# Altium footprint library DIP-SW  0607.PCBlib: 56 footprints (part 1 of 4)
Each footprint in its own frame and in the unit in brackets; x right, y up, seen from the top. Pads: shape width x height; smd on the part's side, far side on the other; paste and mask are expansions set on the pad; w line width, h text height; cw(c..) or ccw(c..) is an arc to the next point about the centre after c.
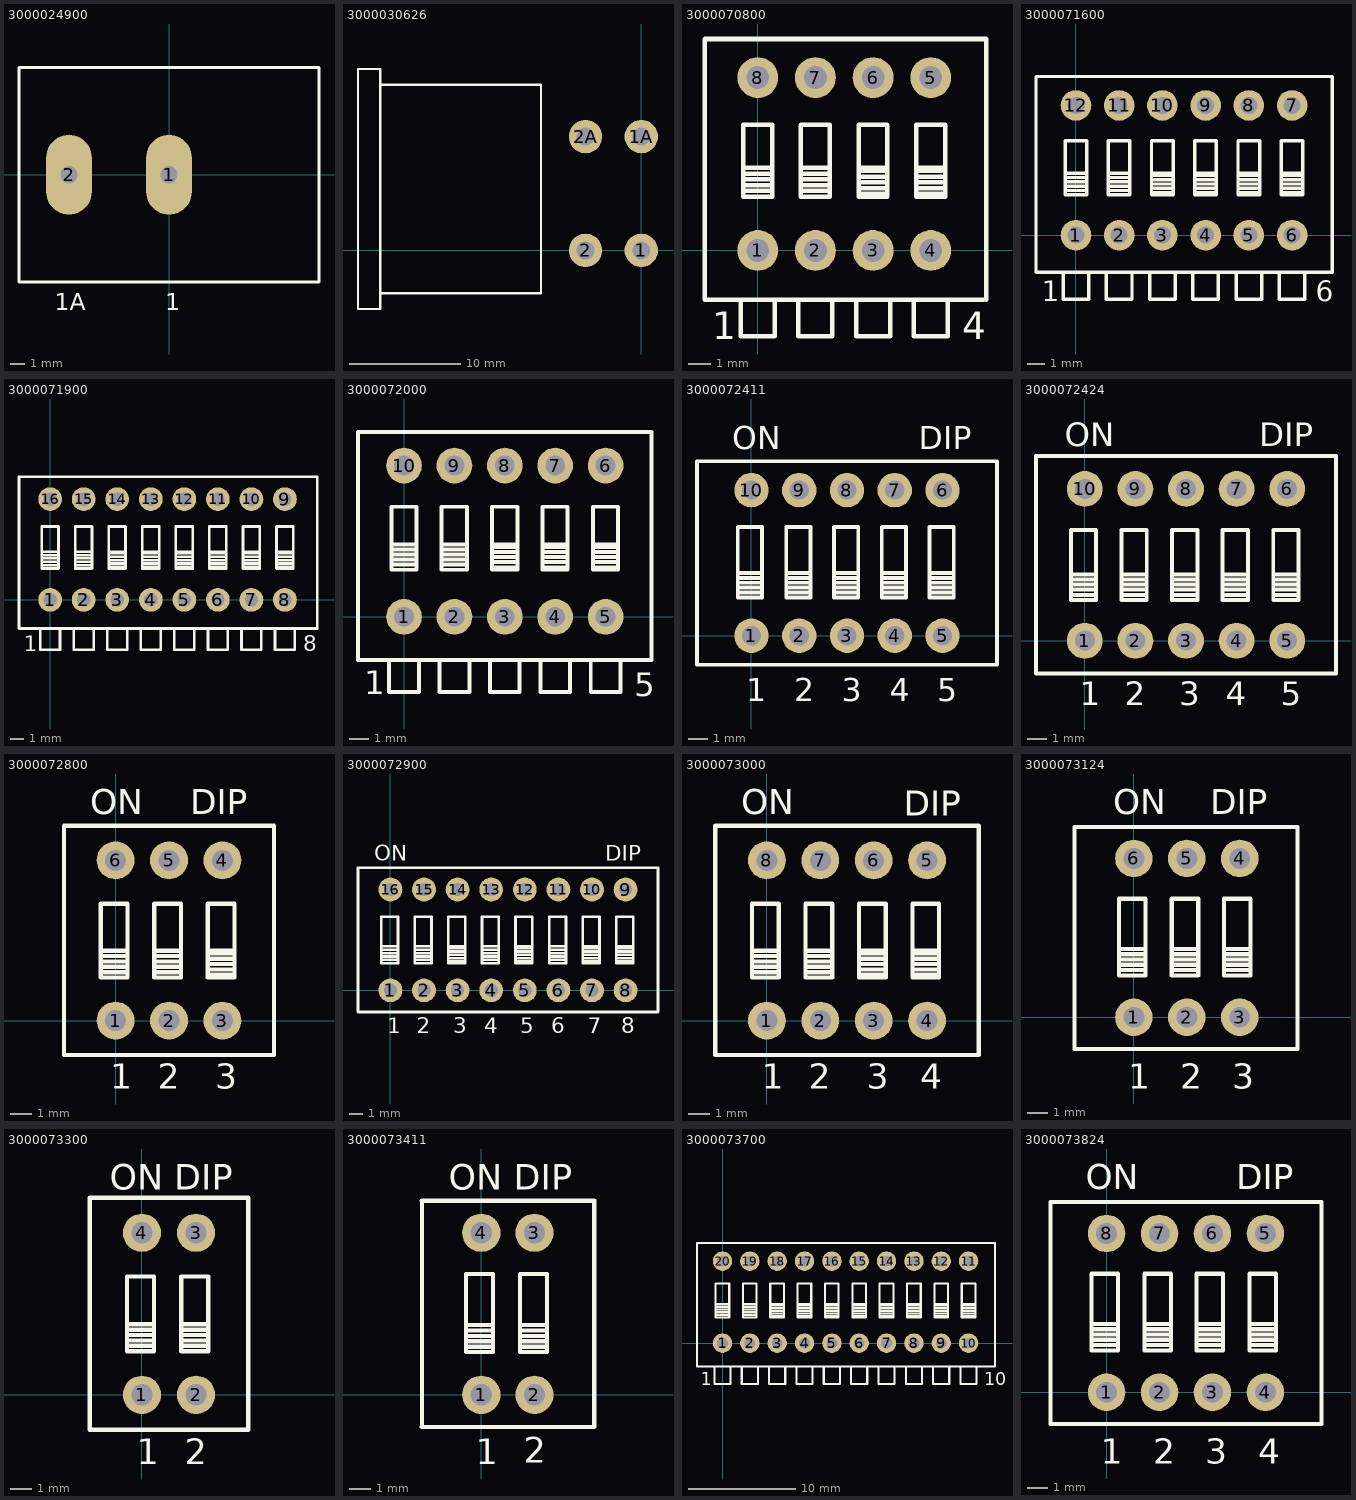
[diagram p0: the footprints below, top view; thin cyan lines are the x and y axes]

## 3000024900 [mm]
height 17
pads (2):
  oval 3.2x5.6 hole 1.2: 1(0,0) 2(-7,0)
Top Overlay:
  lines w0.2: -10.5,-7.5 10.5,-7.5 10.5,7.5 -10.5,7.5 -10.5,-7.5
  text "1A" at -8,-9.5 h1.2
  text "1" at -0.25,-9.5 h1.2
Top Solder:
  lines w1.5: -7,-1.2 -7,0 -7,1.2 ; 0,-1.2 0,0 0,1.2
Drill Drawing:
  lines w0.2: -7.6,-1.3 -7.6,1.3 ; -7.6,-1.2 ccw(c-7,-1.2) -6.4,-1.2 -6.4,1.2 ccw(c-7,1.2) -7.6,1.2 ; -0.6,-1.3 -0.6,1.3 ; -0.6,-1.2 ccw(c0,-1.2) 0.6,-1.2 0.6,1.2 ccw(c0,1.2) -0.6,1.2
  text "(1.2X3.6)*2" at -8.25,-5.25 h1.2

## 3000030626 [mm]
height 19.9
pads (4):
  round 3 hole 1.6: 1(0,0) 1A(0,10.2) 2(-5,0) 2A(-5,10.2)
Top Overlay:
  lines w0.2: -23.4,-3.85 -9,-3.85 -9,14.85 -23.4,14.85 ; -25.4,-5.25 -23.4,-5.25 -23.4,16.25 -25.4,16.25 -25.4,-5.25

## 3000070800 [mm]
height 10.3
pads (8):
  round 1.8 hole 1: 1(0,0) 2(2.54,0) 3(5.08,0) 4(7.62,0) 5(7.62,7.62) 6(5.08,7.62) 7(2.54,7.62) 8(0,7.62)
Top Overlay:
  lines w0.2: -0.75,-2.18 -0.75,-3.78 0.75,-3.78 0.75,-2.18 ; -0.64,3.64 0.63,3.64 ; -0.513,2.624 0.503,2.624 ; -0.513,2.878 0.503,2.878 ; -0.513,3.132 0.503,3.132 ; -0.513,3.386 0.503,3.386 ; 1.79,-2.18 1.79,-3.78 3.29,-3.78 3.29,-2.18 ; 1.9,3.64 3.17,3.64 ; 2.027,2.624 3.043,2.624 ; 2.027,2.878 3.043,2.878 ; 2.027,3.132 3.043,3.132 ; 2.027,3.386 3.043,3.386 ; 4.33,-2.18 4.33,-3.78 5.83,-3.78 5.83,-2.18 ; 4.44,3.64 5.71,3.64 ; 4.567,2.497 5.583,2.497 ; 4.567,2.751 5.583,2.751 ; 4.567,3.005 5.583,3.005 ; 4.567,3.259 5.583,3.259 ; 4.567,3.513 5.583,3.513 ; 6.87,-2.18 6.87,-3.78 8.37,-3.78 8.37,-2.18 ; 6.98,3.64 8.25,3.64 ; 7.107,2.497 8.123,2.497 ; 7.107,2.751 8.123,2.751 ; 7.107,3.005 8.123,3.005 ; 7.107,3.259 8.123,3.259 ; 7.107,3.513 8.123,3.513 ; 9.96,-2.18 -2.34,-2.18 -2.34,9.32 10.06,9.32 10.06,-2.18 ; -0.64,2.37 -0.64,5.545 0.63,5.545 0.63,2.37 -0.64,2.37 ; 1.9,2.37 1.9,5.545 3.17,5.545 3.17,2.37 1.9,2.37 ; 4.44,2.37 4.44,5.545 5.71,5.545 5.71,2.37 4.44,2.37 ; 6.98,2.37 6.98,5.545 8.25,5.545 8.25,2.37 6.98,2.37
  text "4" at 9,-3.9 h1.2
  text "1" at -2,-3.9 h1.2
Bottom Overlay:
  lines w0.5: 1.27,-0.8 1.27,0.8 ; 1.27,6.82 1.27,8.42 ; 3.81,-0.8 3.81,0.8 ; 3.81,6.82 3.81,8.42 ; 6.35,-0.8 6.35,0.8 ; 6.35,6.82 6.35,8.42

## 3000071600 [mm]
height 10.3
pads (12):
  round 1.8 hole 1: 1(0,0) 2(2.54,0) 3(5.08,0) 4(7.62,0) 5(10.16,0) 6(12.7,0) 7(12.7,7.62) 8(10.16,7.62) 9(7.62,7.62) 10(5.08,7.62) 11(2.54,7.62) 12(0,7.62)
Top Overlay:
  lines w0.2: -0.75,-2.18 -0.75,-3.78 0.75,-3.78 0.75,-2.18 ; -0.64,3.64 0.63,3.64 ; -0.513,2.624 0.503,2.624 ; -0.513,2.878 0.503,2.878 ; -0.513,3.132 0.503,3.132 ; -0.513,3.386 0.503,3.386 ; 1.79,-2.18 1.79,-3.78 3.29,-3.78 3.29,-2.18 ; 1.9,3.64 3.17,3.64 ; 2.027,2.624 3.043,2.624 ; 2.027,2.878 3.043,2.878 ; 2.027,3.132 3.043,3.132 ; 2.027,3.386 3.043,3.386 ; 4.33,-2.18 4.33,-3.78 5.83,-3.78 5.83,-2.18 ; 4.44,3.64 5.71,3.64 ; 4.567,2.497 5.583,2.497 ; 4.567,2.751 5.583,2.751 ; 4.567,3.005 5.583,3.005 ; 4.567,3.259 5.583,3.259 ; 4.567,3.513 5.583,3.513 ; 6.87,-2.18 6.87,-3.78 8.37,-3.78 8.37,-2.18 ; 6.98,3.64 8.25,3.64 ; 7.107,2.497 8.123,2.497 ; 7.107,2.751 8.123,2.751 ; 7.107,3.005 8.123,3.005 ; 7.107,3.259 8.123,3.259 ; 7.107,3.513 8.123,3.513 ; 9.41,-2.18 9.41,-3.78 10.91,-3.78 10.91,-2.18 ; 9.52,3.64 10.79,3.64 ; 9.647,2.497 10.663,2.497 ; 9.647,2.751 10.663,2.751 ; 9.647,3.005 10.663,3.005 ; 9.647,3.259 10.663,3.259 ; 9.647,3.513 10.663,3.513 ; 11.95,-2.18 11.95,-3.78 13.45,-3.78 13.45,-2.18 ; 12.06,3.64 13.33,3.64 ; 12.187,2.497 13.203,2.497 ; 12.187,2.751 13.203,2.751 ; 12.187,3.005 13.203,3.005 ; 12.187,3.259 13.203,3.259 ; 12.187,3.513 13.203,3.513 ; -2.35,-2.18 -2.35,9.32 15.05,9.32 15.05,-2.18 -2.35,-2.18 ; -0.64,2.37 -0.64,5.545 0.63,5.545 0.63,2.37 -0.64,2.37 ; 1.9,2.37 1.9,5.545 3.17,5.545 3.17,2.37 1.9,2.37 ; 4.44,2.37 4.44,5.545 5.71,5.545 5.71,2.37 4.44,2.37 ; 6.98,2.37 6.98,5.545 8.25,5.545 8.25,2.37 6.98,2.37 ; 9.52,2.37 9.52,5.545 10.79,5.545 10.79,2.37 9.52,2.37 ; 12.06,2.37 12.06,5.545 13.33,5.545 13.33,2.37 12.06,2.37
  text "1" at -2,-3.9 h1.2
  text "6" at 14.08,-3.9 h1.2
Bottom Overlay:
  lines w0.5: 1.27,-0.8 1.27,0.8 ; 1.27,6.82 1.27,8.42 ; 3.81,-0.8 3.81,0.8 ; 3.81,6.82 3.81,8.42 ; 6.35,-0.8 6.35,0.8 ; 6.35,6.82 6.35,8.42 ; 8.89,-0.8 8.89,0.8 ; 8.89,6.82 8.89,8.42 ; 11.43,-0.8 11.43,0.8 ; 11.43,6.82 11.43,8.42
Mechanical 7:
  text "H=10.3mm" at 2.54,1 h1

## 3000071900 [mm]
height 10.3
pads (16):
  round 1.8 hole 1: 1(0,0) 2(2.54,0) 3(5.08,0) 4(7.62,0) 5(10.16,0) 6(12.7,0) 7(15.24,0) 8(17.78,0) 9(17.78,7.62) 10(15.24,7.62) 11(12.7,7.62) 12(10.16,7.62) 13(7.62,7.62) 14(5.08,7.62) 15(2.54,7.62) 16(0,7.62)
Top Overlay:
  lines w0.2: -2.36,-2.18 20.14,-2.18 ; -2.36,-2.13 -2.36,9.27 ; -2.36,9.32 20.14,9.32 ; -0.75,-2.18 -0.75,-3.78 0.75,-3.78 0.75,-2.18 ; -0.64,3.64 0.63,3.64 ; -0.513,2.624 0.503,2.624 ; -0.513,2.878 0.503,2.878 ; -0.513,3.132 0.503,3.132 ; -0.513,3.386 0.503,3.386 ; 1.79,-2.18 1.79,-3.78 3.29,-3.78 3.29,-2.18 ; 1.9,3.64 3.17,3.64 ; 2.027,2.624 3.043,2.624 ; 2.027,2.878 3.043,2.878 ; 2.027,3.132 3.043,3.132 ; 2.027,3.386 3.043,3.386 ; 4.33,-2.18 4.33,-3.78 5.83,-3.78 5.83,-2.18 ; 4.44,3.64 5.71,3.64 ; 4.567,2.497 5.583,2.497 ; 4.567,2.751 5.583,2.751 ; 4.567,3.005 5.583,3.005 ; 4.567,3.259 5.583,3.259 ; 4.567,3.513 5.583,3.513 ; 6.87,-2.18 6.87,-3.78 8.37,-3.78 8.37,-2.18 ; 6.98,3.64 8.25,3.64 ; 7.107,2.497 8.123,2.497 ; 7.107,2.751 8.123,2.751 ; 7.107,3.005 8.123,3.005 ; 7.107,3.259 8.123,3.259 ; 7.107,3.513 8.123,3.513 ; 9.41,-2.18 9.41,-3.78 10.91,-3.78 10.91,-2.18 ; 9.52,3.64 10.79,3.64 ; 9.647,2.497 10.663,2.497 ; 9.647,2.751 10.663,2.751 ; 9.647,3.005 10.663,3.005 ; 9.647,3.259 10.663,3.259 ; 9.647,3.513 10.663,3.513 ; 11.95,-2.18 11.95,-3.78 13.45,-3.78 13.45,-2.18 ; 12.06,3.64 13.33,3.64 ; 12.187,2.497 13.203,2.497 ; 12.187,2.751 13.203,2.751 ; 12.187,3.005 13.203,3.005 ; 12.187,3.259 13.203,3.259 ; 12.187,3.513 13.203,3.513 ; 14.49,-2.18 14.49,-3.78 15.99,-3.78 15.99,-2.18 ; 14.6,3.64 15.87,3.64 ; 14.727,2.497 15.743,2.497 ; 14.727,2.751 15.743,2.751 ; 14.727,3.005 15.743,3.005 ; 14.727,3.259 15.743,3.259 ; 14.727,3.513 15.743,3.513 ; 17.03,-2.18 17.03,-3.78 18.53,-3.78 18.53,-2.18 ; 17.14,3.64 18.41,3.64 ; 17.267,2.497 18.283,2.497 ; 17.267,2.751 18.283,2.751 ; 17.267,3.005 18.283,3.005 ; 17.267,3.259 18.283,3.259 ; 17.267,3.513 18.283,3.513 ; 20.22,-2.18 20.22,9.32 ; -0.64,2.37 0.63,2.37 0.63,5.545 -0.64,5.545 -0.64,2.37 ; 1.9,2.37 3.17,2.37 3.17,5.545 1.9,5.545 1.9,2.37 ; 4.44,2.37 5.71,2.37 5.71,5.545 4.44,5.545 4.44,2.37 ; 6.98,2.37 8.25,2.37 8.25,5.545 6.98,5.545 6.98,2.37 ; 9.52,2.37 10.79,2.37 10.79,5.545 9.52,5.545 9.52,2.37 ; 12.06,2.37 13.33,2.37 13.33,5.545 12.06,5.545 12.06,2.37 ; 14.6,2.37 15.87,2.37 15.87,5.545 14.6,5.545 14.6,2.37 ; 17.14,2.37 18.41,2.37 18.41,5.545 17.14,5.545 17.14,2.37
  text "1" at -2,-3.9 h1.2
  text "8" at 19.16,-3.9 h1.2
Bottom Overlay:
  lines w0.5: 1.27,-0.8 1.27,0.8 ; 1.27,6.82 1.27,8.42 ; 3.81,-0.8 3.81,0.8 ; 3.81,6.82 3.81,8.42 ; 6.35,-0.8 6.35,0.8 ; 6.35,6.82 6.35,8.42 ; 8.89,-0.8 8.89,0.8 ; 8.89,6.82 8.89,8.42 ; 11.43,-0.8 11.43,0.8 ; 11.43,6.82 11.43,8.42 ; 13.97,-0.8 13.97,0.8 ; 13.97,6.82 13.97,8.42 ; 16.51,-0.8 16.51,0.8 ; 16.51,6.82 16.51,8.42

## 3000072000 [mm]
height 10.3
pads (10):
  round 1.8 hole 1: 1(0,0) 2(2.54,0) 3(5.08,0) 4(7.62,0) 5(10.16,0) 6(10.16,7.62) 7(7.62,7.62) 8(5.08,7.62) 9(2.54,7.62) 10(0,7.62)
Top Overlay:
  lines w0.2: -2.32,-2.18 12.48,-2.18 12.48,9.32 -2.32,9.32 ; -2.32,-2.13 -2.32,9.27 ; -0.75,-2.18 -0.75,-3.78 0.75,-3.78 0.75,-2.18 ; -0.64,3.64 0.63,3.64 ; -0.513,2.624 0.503,2.624 ; -0.513,2.878 0.503,2.878 ; -0.513,3.132 0.503,3.132 ; -0.513,3.386 0.503,3.386 ; 1.79,-2.18 1.79,-3.78 3.29,-3.78 3.29,-2.18 ; 1.9,3.64 3.17,3.64 ; 2.027,2.624 3.043,2.624 ; 2.027,2.878 3.043,2.878 ; 2.027,3.132 3.043,3.132 ; 2.027,3.386 3.043,3.386 ; 4.33,-2.18 4.33,-3.78 5.83,-3.78 5.83,-2.18 ; 4.44,3.64 5.71,3.64 ; 4.567,2.497 5.583,2.497 ; 4.567,2.751 5.583,2.751 ; 4.567,3.005 5.583,3.005 ; 4.567,3.259 5.583,3.259 ; 4.567,3.513 5.583,3.513 ; 6.87,-2.18 6.87,-3.78 8.37,-3.78 8.37,-2.18 ; 6.98,3.64 8.25,3.64 ; 7.107,2.497 8.123,2.497 ; 7.107,2.751 8.123,2.751 ; 7.107,3.005 8.123,3.005 ; 7.107,3.259 8.123,3.259 ; 7.107,3.513 8.123,3.513 ; 9.41,-2.18 9.41,-3.78 10.91,-3.78 10.91,-2.18 ; 9.52,3.64 10.79,3.64 ; 9.647,2.497 10.663,2.497 ; 9.647,2.751 10.663,2.751 ; 9.647,3.005 10.663,3.005 ; 9.647,3.259 10.663,3.259 ; 9.647,3.513 10.663,3.513 ; -0.64,2.37 0.63,2.37 0.63,5.545 -0.64,5.545 -0.64,2.37 ; 1.9,2.37 3.17,2.37 3.17,5.545 1.9,5.545 1.9,2.37 ; 4.44,2.37 5.71,2.37 5.71,5.545 4.44,5.545 4.44,2.37 ; 6.98,2.37 8.25,2.37 8.25,5.545 6.98,5.545 6.98,2.37 ; 9.52,2.37 10.79,2.37 10.79,5.545 9.52,5.545 9.52,2.37
  text "5" at 11.6,-4 h1.2
  text "1" at -2,-3.9 h1.2
Bottom Overlay:
  lines w0.5: 1.27,-0.8 1.27,0.8 ; 1.27,6.82 1.27,8.42 ; 3.81,-0.8 3.81,0.8 ; 3.81,6.82 3.81,8.42 ; 6.35,-0.8 6.35,0.8 ; 6.35,6.82 6.35,8.42 ; 8.89,-0.8 8.89,0.8 ; 8.89,6.82 8.89,8.42
Mechanical 7:
  text "H=10.3mm" at 1.75,1 h1

## 3000072411 [mm]
height 8
pads (10):
  round 1.8 hole 1: 1(0,0) 2(2.5,0) 3(5,0) 4(7.5,0) 5(10,0) 6(10,7.62) 7(7.5,7.62) 8(5,7.62) 9(2.5,7.62) 10(0,7.62)
Top Overlay:
  lines w0.2: -0.72,3.28 0.55,3.28 ; -0.593,2.264 0.423,2.264 ; -0.593,2.518 0.423,2.518 ; -0.593,2.772 0.423,2.772 ; -0.593,3.026 0.423,3.026 ; 1.82,3.28 3.09,3.28 ; 1.947,2.264 2.963,2.264 ; 1.947,2.518 2.963,2.518 ; 1.947,2.772 2.963,2.772 ; 1.947,3.026 2.963,3.026 ; 4.32,3.28 5.59,3.28 ; 4.447,2.264 5.463,2.264 ; 4.447,2.518 5.463,2.518 ; 4.447,2.772 5.463,2.772 ; 4.447,3.026 5.463,3.026 ; 6.82,3.28 8.09,3.28 ; 6.947,2.264 7.963,2.264 ; 6.947,2.518 7.963,2.518 ; 6.947,2.772 7.963,2.772 ; 6.947,3.026 7.963,3.026 ; 9.32,3.28 10.59,3.28 ; 9.447,2.264 10.463,2.264 ; 9.447,2.518 10.463,2.518 ; 9.447,2.772 10.463,2.772 ; 9.447,3.026 10.463,3.026 ; -2.85,-1.515 12.85,-1.515 12.85,9.135 -2.85,9.135 -2.85,-1.515 ; -0.72,2.01 0.55,2.01 0.55,5.685 -0.72,5.685 -0.72,2.01 ; 1.82,2.01 3.09,2.01 3.09,5.685 1.82,5.685 1.82,2.01 ; 4.32,2.01 5.59,2.01 5.59,5.685 4.32,5.685 4.32,2.01 ; 6.82,2.01 8.09,2.01 8.09,5.685 6.82,5.685 6.82,2.01 ; 9.32,2.01 10.59,2.01 10.59,5.685 9.32,5.685 9.32,2.01
  text "ON" at -1,9.75 h1.2
  text "DIP" at 8.75,9.75 h1.2
  text "5" at 9.73,-3.44 h1.2
  text "4" at 7.23,-3.44 h1.2
  text "3" at 4.73,-3.44 h1.2
  text "2" at 2.23,-3.44 h1.2
  text "1" at -0.27,-3.44 h1.2
Bottom Overlay:
  lines w0.5: 1.25,-0.8 1.25,0.8 ; 1.25,6.82 1.25,8.42 ; 3.75,-0.8 3.75,0.8 ; 3.75,6.82 3.75,8.42 ; 6.25,-0.8 6.25,0.8 ; 6.25,6.82 6.25,8.42 ; 8.75,-0.8 8.75,0.8 ; 8.75,6.82 8.75,8.42
Mechanical 7:
  text "H=8mm" at 2,1 h1

## 3000072424 [mm] "DS-05-G-01-BL"
height 7.1
pads (10):
  round 1.8 hole 1: 1(0,0) 2(2.54,0) 3(5.08,0) 4(7.62,0) 5(10.16,0) 6(10.16,7.62) 7(7.62,7.62) 8(5.08,7.62) 9(2.54,7.62) 10(0,7.62)
Top Overlay:
  lines w0.2: -0.7,2.05 0.57,2.05 ; -0.7,2.06 -0.7,5.56 0.57,5.56 0.57,2.06 ; -0.7,3.32 0.57,3.32 ; -0.573,2.304 0.443,2.304 ; -0.573,2.558 0.443,2.558 ; -0.573,2.812 0.443,2.812 ; -0.573,3.066 0.443,3.066 ; 1.84,2.05 3.11,2.05 ; 1.84,2.06 1.84,5.56 3.11,5.56 3.11,2.06 ; 1.84,3.32 3.11,3.32 ; 1.967,2.304 2.983,2.304 ; 1.967,2.558 2.983,2.558 ; 1.967,2.812 2.983,2.812 ; 1.967,3.066 2.983,3.066 ; 4.38,2.05 5.65,2.05 ; 4.38,2.06 4.38,5.56 5.65,5.56 5.65,2.06 ; 4.38,3.32 5.65,3.32 ; 4.507,2.304 5.523,2.304 ; 4.507,2.558 5.523,2.558 ; 4.507,2.812 5.523,2.812 ; 4.507,3.066 5.523,3.066 ; 6.92,2.05 8.19,2.05 ; 6.92,2.06 6.92,5.56 8.19,5.56 8.19,2.06 ; 6.92,3.32 8.19,3.32 ; 7.047,2.304 8.063,2.304 ; 7.047,2.558 8.063,2.558 ; 7.047,2.812 8.063,2.812 ; 7.047,3.066 8.063,3.066 ; 9.46,2.05 10.73,2.05 ; 9.46,2.06 9.46,5.56 10.73,5.56 10.73,2.06 ; 9.46,3.32 10.73,3.32 ; 9.587,2.304 10.603,2.304 ; 9.587,2.558 10.603,2.558 ; 9.587,2.812 10.603,2.812 ; 9.587,3.066 10.603,3.066 ; -2.45,-1.64 -2.45,9.26 12.61,9.26 12.61,-1.64 -2.45,-1.64
  text "2" at 2,-3.25 h1.2
  text "3" at 4.75,-3.25 h1.2
  text "1" at -0.25,-3.25 h1.2
  text "4" at 7.08,-3.25 h1.2
  text "5" at 9.83,-3.25 h1.2
  text "DIP" at 8.75,9.75 h1.2
  text "ON" at -1,9.75 h1.2
Bottom Overlay:
  lines w0.5: 1.27,-0.8 1.27,0.8 ; 1.27,6.82 1.27,8.42 ; 3.81,-0.8 3.81,0.8 ; 3.81,6.82 3.81,8.42 ; 6.35,-0.8 6.35,0.8 ; 6.35,6.82 6.35,8.42 ; 8.89,-0.8 8.89,0.8 ; 8.89,6.82 8.89,8.42

## 3000072800 [mm]
height 6.9
pads (6):
  round 1.8 hole 1: 1(0,0) 2(2.54,0) 3(5.08,0) 4(5.08,7.62) 5(2.54,7.62) 6(0,7.62)
Top Overlay:
  lines w0.2: -0.7,2.05 0.57,2.05 ; -0.7,2.06 -0.7,5.56 0.57,5.56 0.57,2.06 ; -0.7,3.32 0.57,3.32 ; -0.573,2.304 0.443,2.304 ; -0.573,2.558 0.443,2.558 ; -0.573,2.812 0.443,2.812 ; -0.573,3.066 0.443,3.066 ; 1.84,2.05 3.11,2.05 ; 1.84,2.06 1.84,5.56 3.11,5.56 3.11,2.06 ; 1.84,3.32 3.11,3.32 ; 1.967,2.304 2.983,2.304 ; 1.967,2.558 2.983,2.558 ; 1.967,2.812 2.983,2.812 ; 1.967,3.066 2.983,3.066 ; 4.38,2.05 5.65,2.05 ; 4.38,2.06 4.38,5.56 5.65,5.56 5.65,2.06 ; 4.38,3.32 5.65,3.32 ; 4.507,2.177 5.523,2.177 ; 4.507,2.431 5.523,2.431 ; 4.507,2.685 5.523,2.685 ; 4.507,2.939 5.523,2.939 ; 4.507,3.193 5.523,3.193 ; -2.45,-1.64 -2.45,9.26 7.53,9.26 7.53,-1.64 -2.45,-1.64
  text "DIP" at 3.54,9.81 h1.2
  text "ON" at -1.21,9.81 h1.2
  text "1" at -0.25,-3.25 h1.2
  text "3" at 4.75,-3.25 h1.2
  text "2" at 2,-3.25 h1.2
Bottom Overlay:
  lines w0.5: 1.27,-0.8 1.27,0.8 ; 1.27,6.82 1.27,8.42 ; 3.81,-0.8 3.81,0.8 ; 3.81,6.82 3.81,8.42

## 3000072900 [mm]
height 6.9
pads (16):
  round 1.8 hole 1: 1(0,0) 2(2.54,0) 3(5.08,0) 4(7.62,0) 5(10.16,0) 6(12.7,0) 7(15.24,0) 8(17.78,0) 9(17.78,7.62) 10(15.24,7.62) 11(12.7,7.62) 12(10.16,7.62) 13(7.62,7.62) 14(5.08,7.62) 15(2.54,7.62) 16(0,7.62)
Top Overlay:
  lines w0.2: -0.7,2.05 0.57,2.05 ; -0.7,2.06 -0.7,5.56 0.57,5.56 0.57,2.06 ; -0.7,3.32 0.57,3.32 ; -0.573,2.304 0.443,2.304 ; -0.573,2.558 0.443,2.558 ; -0.573,2.812 0.443,2.812 ; -0.573,3.066 0.443,3.066 ; 1.84,2.05 3.11,2.05 ; 1.84,2.06 1.84,5.56 3.11,5.56 3.11,2.06 ; 1.84,3.32 3.11,3.32 ; 1.967,2.304 2.983,2.304 ; 1.967,2.558 2.983,2.558 ; 1.967,2.812 2.983,2.812 ; 1.967,3.066 2.983,3.066 ; 4.38,2.05 5.65,2.05 ; 4.38,2.06 4.38,5.56 5.65,5.56 5.65,2.06 ; 4.38,3.32 5.65,3.32 ; 4.507,2.177 5.523,2.177 ; 4.507,2.431 5.523,2.431 ; 4.507,2.685 5.523,2.685 ; 4.507,2.939 5.523,2.939 ; 4.507,3.193 5.523,3.193 ; 6.92,2.05 8.19,2.05 ; 6.92,2.06 6.92,5.56 8.19,5.56 8.19,2.06 ; 6.92,3.32 8.19,3.32 ; 7.047,2.304 8.063,2.304 ; 7.047,2.558 8.063,2.558 ; 7.047,2.812 8.063,2.812 ; 7.047,3.066 8.063,3.066 ; 9.46,2.05 10.73,2.05 ; 9.46,2.06 9.46,5.56 10.73,5.56 10.73,2.06 ; 9.46,3.32 10.73,3.32 ; 9.587,2.177 10.603,2.177 ; 9.587,2.431 10.603,2.431 ; 9.587,2.685 10.603,2.685 ; 9.587,2.939 10.603,2.939 ; 9.587,3.193 10.603,3.193 ; 12,2.05 13.27,2.05 ; 12,2.06 12,5.56 13.27,5.56 13.27,2.06 ; 12,3.32 13.27,3.32 ; 12.127,2.304 13.143,2.304 ; 12.127,2.558 13.143,2.558 ; 12.127,2.812 13.143,2.812 ; 12.127,3.066 13.143,3.066 ; 14.54,2.05 15.81,2.05 ; 14.54,2.06 14.54,5.56 15.81,5.56 15.81,2.06 ; 14.54,3.32 15.81,3.32 ; 14.667,2.177 15.683,2.177 ; 14.667,2.431 15.683,2.431 ; 14.667,2.685 15.683,2.685 ; 14.667,2.939 15.683,2.939 ; 14.667,3.193 15.683,3.193 ; 17.08,2.05 18.35,2.05 ; 17.08,2.06 17.08,5.56 18.35,5.56 18.35,2.06 ; 17.08,3.32 18.35,3.32 ; 17.207,2.177 18.223,2.177 ; 17.207,2.431 18.223,2.431 ; 17.207,2.685 18.223,2.685 ; 17.207,2.939 18.223,2.939 ; 17.207,3.193 18.223,3.193 ; -2.45,-1.64 20.23,-1.64 20.23,9.26 -2.45,9.26 -2.45,-1.64
  text "8" at 17.45,-3.25 h1.2
  text "DIP" at 16.24,9.81 h1.2
  text "2" at 2,-3.25 h1.2
  text "3" at 4.75,-3.25 h1.2
  text "1" at -0.25,-3.25 h1.2
  text "ON" at -1.21,9.81 h1.2
  text "4" at 7.08,-3.25 h1.2
  text "5" at 9.83,-3.25 h1.2
  text "6" at 12.16,-3.25 h1.2
  text "7" at 14.91,-3.25 h1.2
Bottom Overlay:
  lines w0.5: 1.27,-0.8 1.27,0.8 ; 1.27,6.82 1.27,8.42 ; 3.81,-0.8 3.81,0.8 ; 3.81,6.82 3.81,8.42 ; 6.35,-0.8 6.35,0.8 ; 6.35,6.82 6.35,8.42 ; 8.89,-0.8 8.89,0.8 ; 8.89,6.82 8.89,8.42 ; 11.43,-0.8 11.43,0.8 ; 11.43,6.82 11.43,8.42 ; 13.97,-0.8 13.97,0.8 ; 13.97,6.82 13.97,8.42 ; 16.51,-0.8 16.51,0.8 ; 16.51,6.82 16.51,8.42

## 3000073000 [mm]
height 6.9
pads (8):
  round 1.8 hole 1: 1(0,0) 2(2.54,0) 3(5.08,0) 4(7.62,0) 5(7.62,7.62) 6(5.08,7.62) 7(2.54,7.62) 8(0,7.62)
Top Overlay:
  lines w0.2: -0.7,2.05 0.57,2.05 ; -0.7,2.06 -0.7,5.56 0.57,5.56 0.57,2.06 ; -0.7,3.32 0.57,3.32 ; -0.573,2.304 0.443,2.304 ; -0.573,2.558 0.443,2.558 ; -0.573,2.812 0.443,2.812 ; -0.573,3.066 0.443,3.066 ; 1.84,2.05 3.11,2.05 ; 1.84,2.06 1.84,5.56 3.11,5.56 3.11,2.06 ; 1.84,3.32 3.11,3.32 ; 1.967,2.304 2.983,2.304 ; 1.967,2.558 2.983,2.558 ; 1.967,2.812 2.983,2.812 ; 1.967,3.066 2.983,3.066 ; 4.38,2.05 5.65,2.05 ; 4.38,2.06 4.38,5.56 5.65,5.56 5.65,2.06 ; 4.38,3.32 5.65,3.32 ; 4.507,2.177 5.523,2.177 ; 4.507,2.431 5.523,2.431 ; 4.507,2.685 5.523,2.685 ; 4.507,2.939 5.523,2.939 ; 4.507,3.193 5.523,3.193 ; 6.92,2.05 8.19,2.05 ; 6.92,2.06 6.92,5.56 8.19,5.56 8.19,2.06 ; 6.92,3.32 8.19,3.32 ; 7.047,2.177 8.063,2.177 ; 7.047,2.431 8.063,2.431 ; 7.047,2.685 8.063,2.685 ; 7.047,2.939 8.063,2.939 ; 7.047,3.193 8.063,3.193 ; -2.45,-1.64 -2.45,9.26 10.07,9.26 10.07,-1.64 -2.45,-1.64
  text "ON" at -1.21,9.81 h1.2
  text "1" at -0.25,-3.25 h1.2
  text "3" at 4.75,-3.25 h1.2
  text "2" at 2,-3.25 h1.2
  text "DIP" at 6.5,9.75 h1.2
  text "4" at 7.29,-3.25 h1.2
Bottom Overlay:
  lines w0.5: 1.27,-0.8 1.27,0.8 ; 1.27,6.82 1.27,8.42 ; 3.81,-0.8 3.81,0.8 ; 3.81,6.82 3.81,8.42 ; 6.35,-0.8 6.35,0.8 ; 6.35,6.82 6.35,8.42

## 3000073124 [mm] "DS-03-G-01-BL"
height 7.1
pads (6):
  round 1.8 hole 1: 1(0,0) 2(2.54,0) 3(5.08,0) 4(5.08,7.62) 5(2.54,7.62) 6(0,7.62)
Top Overlay:
  lines w0.2: -2.85,-1.515 -2.85,9.135 7.85,9.135 7.85,-1.515 ; -2.825,-1.515 7.825,-1.515 ; -0.72,3.28 0.55,3.28 ; -0.593,2.264 0.423,2.264 ; -0.593,2.518 0.423,2.518 ; -0.593,2.772 0.423,2.772 ; -0.593,3.026 0.423,3.026 ; 1.82,3.28 3.09,3.28 ; 1.947,2.264 2.963,2.264 ; 1.947,2.518 2.963,2.518 ; 1.947,2.772 2.963,2.772 ; 1.947,3.026 2.963,3.026 ; 4.32,3.28 5.59,3.28 ; 4.447,2.264 5.463,2.264 ; 4.447,2.518 5.463,2.518 ; 4.447,2.772 5.463,2.772 ; 4.447,3.026 5.463,3.026 ; -0.72,2.01 0.55,2.01 0.55,5.685 -0.72,5.685 -0.72,2.01 ; 1.82,2.01 3.09,2.01 3.09,5.685 1.82,5.685 1.82,2.01 ; 4.32,2.01 5.59,2.01 5.59,5.685 4.32,5.685 4.32,2.01
  text "3" at 4.73,-3.44 h1.2
  text "2" at 2.23,-3.44 h1.2
  text "1" at -0.27,-3.44 h1.2
  text "DIP" at 3.67,9.75 h1.2
  text "ON" at -1,9.75 h1.2
Bottom Overlay:
  lines w0.5: 1.27,-0.8 1.27,0.8 ; 1.27,6.82 1.27,8.42 ; 3.81,-0.8 3.81,0.8 ; 3.81,6.82 3.81,8.42

## 3000073300 [mm]
height 6.9
pads (4):
  round 1.8 hole 1: 1(0,0) 2(2.54,0) 3(2.54,7.62) 4(0,7.62)
Top Overlay:
  lines w0.2: -0.7,2.05 0.57,2.05 ; -0.7,2.06 -0.7,5.56 0.57,5.56 0.57,2.06 ; -0.7,3.32 0.57,3.32 ; -0.573,2.304 0.443,2.304 ; -0.573,2.558 0.443,2.558 ; -0.573,2.812 0.443,2.812 ; -0.573,3.066 0.443,3.066 ; 1.84,2.05 3.11,2.05 ; 1.84,2.06 1.84,5.56 3.11,5.56 3.11,2.06 ; 1.84,3.32 3.11,3.32 ; 1.967,2.304 2.983,2.304 ; 1.967,2.558 2.983,2.558 ; 1.967,2.812 2.983,2.812 ; 1.967,3.066 2.983,3.066 ; -2.45,-1.64 4.99,-1.64 4.99,9.26 -2.45,9.26 -2.45,-1.64
  text "2" at 2,-3.25 h1.2
  text "1" at -0.25,-3.25 h1.2
  text "ON" at -1.524,9.652 h1.2
  text "DIP" at 1.524,9.652 h1.2
Bottom Overlay:
  lines w0.5: 1.27,-0.8 1.27,0.8 ; 1.27,6.82 1.27,8.42

## 3000073411 [mm]
height 8
pads (4):
  round 1.8 hole 1: 1(0,0) 2(2.5,0) 3(2.5,7.62) 4(0,7.62)
Top Overlay:
  lines w0.2: -2.8,-1.515 5.3,-1.515 ; -2.8,9.12 5.3,9.12 ; -2.79,-1.515 -2.79,9.135 ; -0.72,3.28 0.55,3.28 ; -0.593,2.264 0.423,2.264 ; -0.593,2.518 0.423,2.518 ; -0.593,2.772 0.423,2.772 ; -0.593,3.026 0.423,3.026 ; 1.82,3.28 3.09,3.28 ; 1.947,2.264 2.963,2.264 ; 1.947,2.518 2.963,2.518 ; 1.947,2.772 2.963,2.772 ; 1.947,3.026 2.963,3.026 ; 5.31,-1.515 5.31,9.135 ; -0.72,2.01 -0.72,5.685 0.55,5.685 0.55,2.01 -0.72,2.01 ; 1.82,2.01 1.82,5.685 3.09,5.685 3.09,2.01 1.82,2.01
  text "ON" at -1.524,9.652 h1.2
  text "DIP" at 1.524,9.652 h1.2
  text "1" at -0.25,-3.25 h1.2
  text "2" at 2,-3.19 h1.2
Bottom Overlay:
  lines w0.5: 1.25,-0.8 1.25,0.8 ; 1.25,6.82 1.25,8.42

## 3000073700 [mm]
height 10.3
pads (20):
  round 1.8 hole 1: 1(0,0) 2(2.54,0) 3(5.08,0) 4(7.62,0) 5(10.16,0) 6(12.7,0) 7(15.24,0) 8(17.78,0) 9(20.32,0) 10(22.86,0) 11(22.86,7.62) 12(20.32,7.62) 13(17.78,7.62) 14(15.24,7.62) 15(12.7,7.62) 16(10.16,7.62) 17(7.62,7.62) 18(5.08,7.62) 19(2.54,7.62) 20(0,7.62)
Top Overlay:
  lines w0.2: -2.37,-2.18 25.23,-2.18 ; -2.37,-2.13 -2.37,9.27 ; -2.37,9.32 25.23,9.32 ; -0.75,-2.18 -0.75,-3.78 0.75,-3.78 0.75,-2.18 ; -0.64,3.64 0.63,3.64 ; -0.513,2.624 0.503,2.624 ; -0.513,2.878 0.503,2.878 ; -0.513,3.132 0.503,3.132 ; -0.513,3.386 0.503,3.386 ; 1.79,-2.18 1.79,-3.78 3.29,-3.78 3.29,-2.18 ; 1.9,3.64 3.17,3.64 ; 2.027,2.624 3.043,2.624 ; 2.027,2.878 3.043,2.878 ; 2.027,3.132 3.043,3.132 ; 2.027,3.386 3.043,3.386 ; 4.33,-2.18 4.33,-3.78 5.83,-3.78 5.83,-2.18 ; 4.44,3.64 5.71,3.64 ; 4.567,2.497 5.583,2.497 ; 4.567,2.751 5.583,2.751 ; 4.567,3.005 5.583,3.005 ; 4.567,3.259 5.583,3.259 ; 4.567,3.513 5.583,3.513 ; 6.87,-2.18 6.87,-3.78 8.37,-3.78 8.37,-2.18 ; 6.98,3.64 8.25,3.64 ; 7.107,2.497 8.123,2.497 ; 7.107,2.751 8.123,2.751 ; 7.107,3.005 8.123,3.005 ; 7.107,3.259 8.123,3.259 ; 7.107,3.513 8.123,3.513 ; 9.41,-2.18 9.41,-3.78 10.91,-3.78 10.91,-2.18 ; 9.52,3.64 10.79,3.64 ; 9.647,2.497 10.663,2.497 ; 9.647,2.751 10.663,2.751 ; 9.647,3.005 10.663,3.005 ; 9.647,3.259 10.663,3.259 ; 9.647,3.513 10.663,3.513 ; 11.95,-2.18 11.95,-3.78 13.45,-3.78 13.45,-2.18 ; 12.06,3.64 13.33,3.64 ; 12.187,2.497 13.203,2.497 ; 12.187,2.751 13.203,2.751 ; 12.187,3.005 13.203,3.005 ; 12.187,3.259 13.203,3.259 ; 12.187,3.513 13.203,3.513 ; 14.49,-2.18 14.49,-3.78 15.99,-3.78 15.99,-2.18 ; 14.6,3.64 15.87,3.64 ; 14.727,2.497 15.743,2.497 ; 14.727,2.751 15.743,2.751 ; 14.727,3.005 15.743,3.005 ; 14.727,3.259 15.743,3.259 ; 14.727,3.513 15.743,3.513 ; 17.03,-2.18 17.03,-3.78 18.53,-3.78 18.53,-2.18 ; 17.14,3.64 18.41,3.64 ; 17.267,2.497 18.283,2.497 ; 17.267,2.751 18.283,2.751 ; 17.267,3.005 18.283,3.005 ; 17.267,3.259 18.283,3.259 ; 17.267,3.513 18.283,3.513 ; 19.57,-2.18 19.57,-3.78 21.07,-3.78 21.07,-2.18 ; 19.68,3.64 20.95,3.64 ; 19.807,2.497 20.823,2.497 ; 19.807,2.751 20.823,2.751 ; 19.807,3.005 20.823,3.005 ; 19.807,3.259 20.823,3.259 ; 19.807,3.513 20.823,3.513 ; 22.11,-2.18 22.11,-3.78 23.61,-3.78 23.61,-2.18 ; 22.22,3.64 23.49,3.64 ; 22.347,2.497 23.363,2.497 ; 22.347,2.751 23.363,2.751 ; 22.347,3.005 23.363,3.005 ; 22.347,3.259 23.363,3.259 ; 22.347,3.513 23.363,3.513 ; 25.3,-2.18 25.3,9.32 ; -0.64,2.37 0.63,2.37 0.63,5.545 -0.64,5.545 -0.64,2.37 ; 1.9,2.37 3.17,2.37 3.17,5.545 1.9,5.545 1.9,2.37 ; 4.44,2.37 5.71,2.37 5.71,5.545 4.44,5.545 4.44,2.37 ; 6.98,2.37 8.25,2.37 8.25,5.545 6.98,5.545 6.98,2.37 ; 9.52,2.37 10.79,2.37 10.79,5.545 9.52,5.545 9.52,2.37 ; 12.06,2.37 13.33,2.37 13.33,5.545 12.06,5.545 12.06,2.37 ; 14.6,2.37 15.87,2.37 15.87,5.545 14.6,5.545 14.6,2.37 ; 17.14,2.37 18.41,2.37 18.41,5.545 17.14,5.545 17.14,2.37 ; 19.68,2.37 20.95,2.37 20.95,5.545 19.68,5.545 19.68,2.37 ; 22.22,2.37 23.49,2.37 23.49,5.545 22.22,5.545 22.22,2.37
  text "1" at -2,-3.9 h1.2
  text "10" at 24.3,-3.9 h1.2
Bottom Overlay:
  lines w0.5: 1.27,-0.8 1.27,0.8 ; 1.27,6.82 1.27,8.42 ; 3.81,-0.8 3.81,0.8 ; 3.81,6.82 3.81,8.42 ; 6.35,-0.8 6.35,0.8 ; 6.35,6.82 6.35,8.42 ; 8.89,-0.8 8.89,0.8 ; 8.89,6.82 8.89,8.42 ; 11.43,-0.8 11.43,0.8 ; 11.43,6.82 11.43,8.42 ; 13.97,-0.8 13.97,0.8 ; 13.97,6.82 13.97,8.42 ; 16.51,-0.8 16.51,0.8 ; 16.51,6.82 16.51,8.42 ; 19.05,-0.8 19.05,0.8 ; 19.05,6.82 19.05,8.42 ; 21.59,-0.8 21.59,0.8 ; 21.59,6.82 21.59,8.42

## 3000073824 [mm] "DS-04-G-01-BL"
height 7.1
pads (8):
  round 1.8 hole 1: 1(0,0) 2(2.54,0) 3(5.08,0) 4(7.62,0) 5(7.62,7.62) 6(5.08,7.62) 7(2.54,7.62) 8(0,7.62)
Top Overlay:
  lines w0.2: -0.72,3.28 0.55,3.28 ; -0.593,2.264 0.423,2.264 ; -0.593,2.518 0.423,2.518 ; -0.593,2.772 0.423,2.772 ; -0.593,3.026 0.423,3.026 ; 1.82,3.28 3.09,3.28 ; 1.947,2.264 2.963,2.264 ; 1.947,2.518 2.963,2.518 ; 1.947,2.772 2.963,2.772 ; 1.947,3.026 2.963,3.026 ; 4.32,3.28 5.59,3.28 ; 4.447,2.264 5.463,2.264 ; 4.447,2.518 5.463,2.518 ; 4.447,2.772 5.463,2.772 ; 4.447,3.026 5.463,3.026 ; 6.86,3.28 8.13,3.28 ; 6.987,2.264 8.003,2.264 ; 6.987,2.518 8.003,2.518 ; 6.987,2.772 8.003,2.772 ; 6.987,3.026 8.003,3.026 ; -2.69,-1.515 -2.69,9.135 10.31,9.135 10.31,-1.515 -2.69,-1.515 ; -0.72,2.01 -0.72,5.685 0.55,5.685 0.55,2.01 -0.72,2.01 ; 1.82,2.01 1.82,5.685 3.09,5.685 3.09,2.01 1.82,2.01 ; 4.32,2.01 4.32,5.685 5.59,5.685 5.59,2.01 4.32,2.01 ; 6.86,2.01 8.13,2.01 8.13,5.685 6.86,5.685 6.86,2.01
  text "ON" at -1,9.75 h1.2
  text "1" at -0.27,-3.44 h1.2
  text "2" at 2.23,-3.44 h1.2
  text "3" at 4.73,-3.44 h1.2
  text "4" at 7.27,-3.44 h1.2
  text "DIP" at 6.21,9.75 h1.2
Bottom Overlay:
  lines w0.5: 1.27,-0.8 1.27,0.8 ; 1.27,6.82 1.27,8.42 ; 3.81,-0.8 3.81,0.8 ; 3.81,6.82 3.81,8.42 ; 6.35,-0.8 6.35,0.8 ; 6.35,6.82 6.35,8.42